# Altium integrated library Linear Technology Power Management Hot Swap Controllers.IntLib: 992 symbols (part 78 of 93)
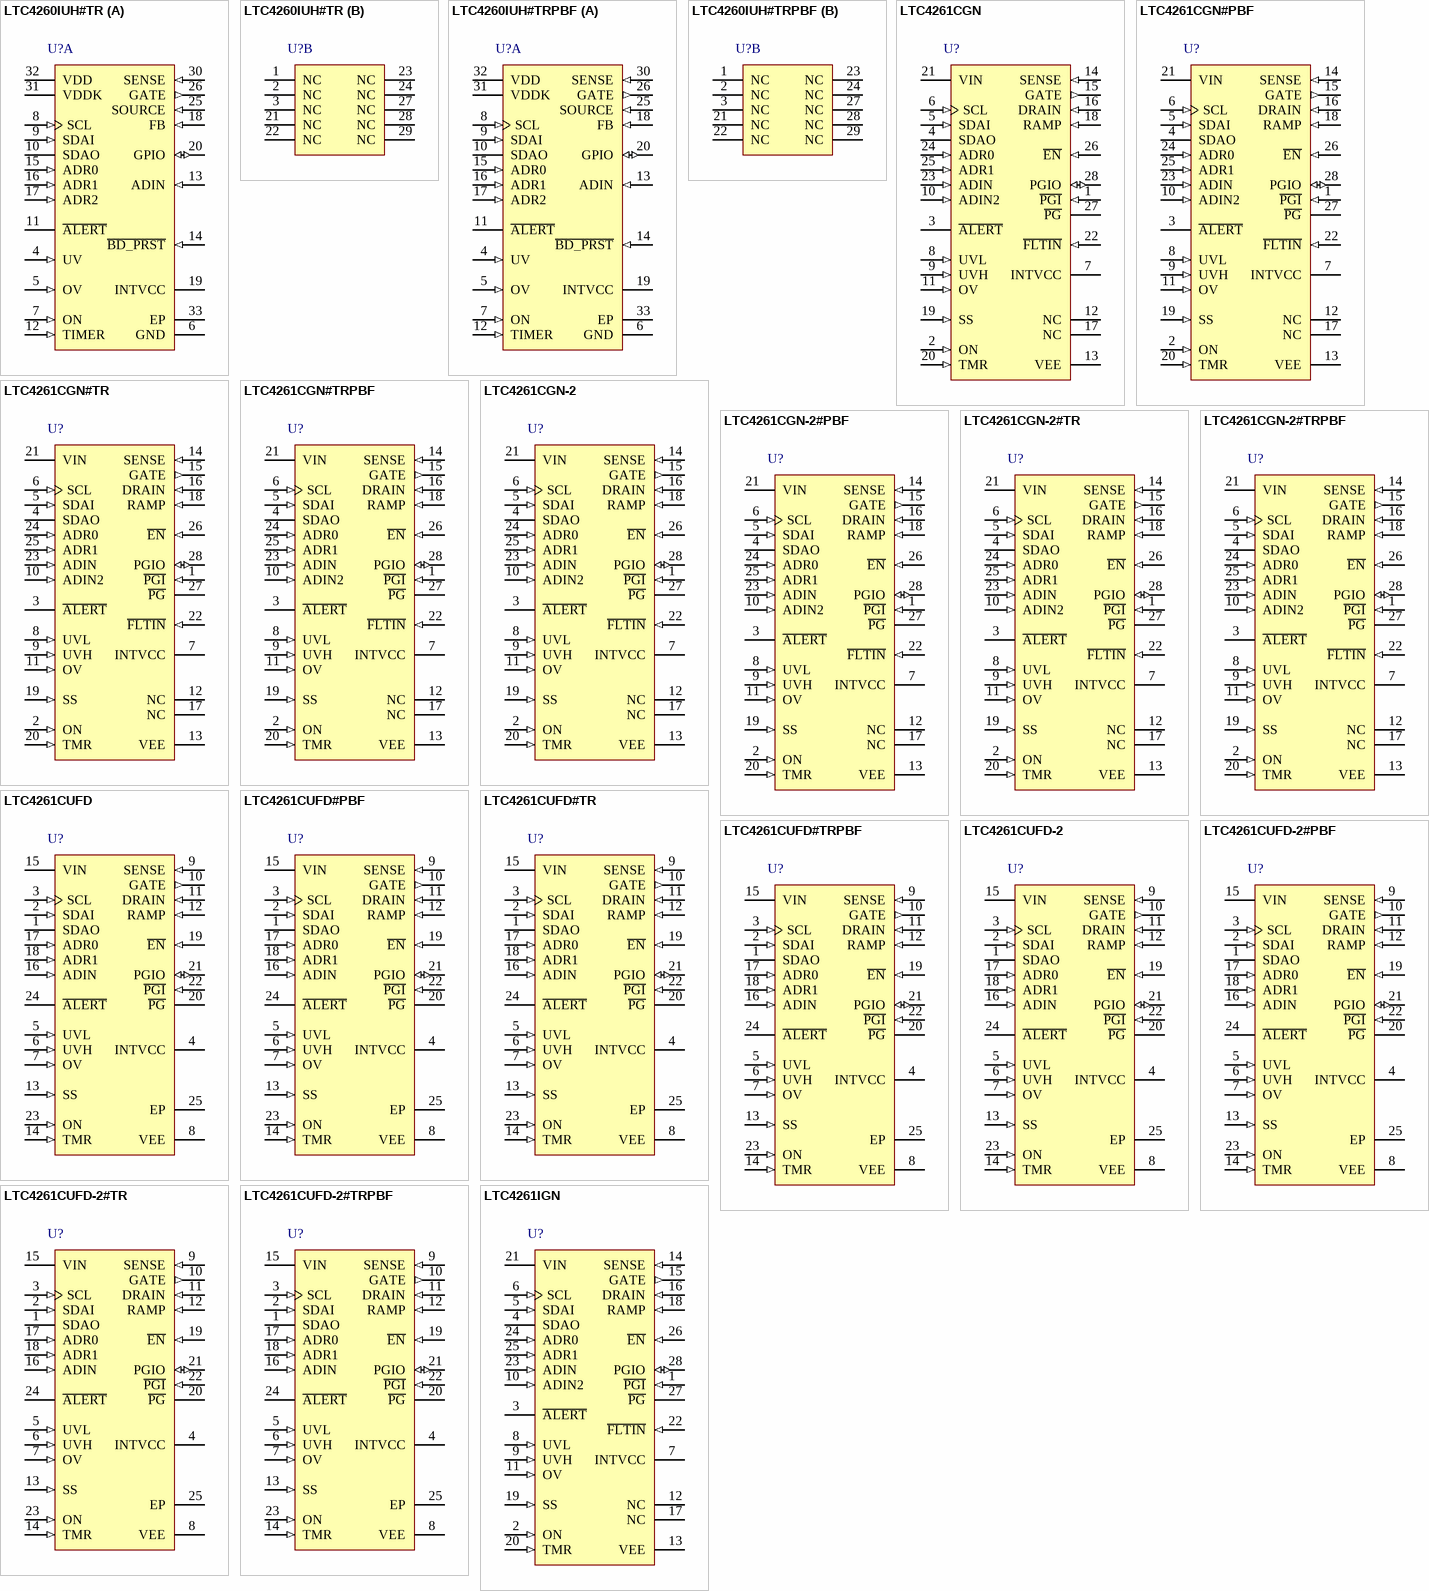
[diagram p114: symbols LTC4260IUH#TR to LTC4261IGN]

## LTC4261CUFD#PBF
designator U?
Negative Voltage Hot Swap Controller with ADC and I2C Monitoring, -12 to -100 V Vin, 24-pin QFN (UFD-24), 0 to 70 degC, Pb-Free; Manufacturer: Linear Technology; PartNumber: LTC4261CUFD#PBF; Active Limiting: yes; ADC: 10-bit; Circuit Breaker Accuracy(%): 10; Circuit Breaker Threshold: 50 mV; Circuit Breakers(#): 1; Extended Temp: C, I; Fast Comparator: no; In-Rush Current: Active/SS; DatasheetVersion: Rev. C; PackageVersion: Rev. A, 06/2010; PackageReference: UFD-24; PackageDescription: 24-Pin Plastic QFN, Body 5 x 4 mm, Pitch 0.5 mm; Supplier 1: Digi-Key; Supplier Part Number 1: LTC4261CUFD#PBF-ND; Fault: yes; Foldback: no; Power Good: yes; Reset: no; RoHS: TRUE; Vin Range: -12 to -100 V; Mounting Technology: Surface Mount; Code_JEDEC: MO-220; ComponentLink1Description: Manufacturer URL; ComponentLink1URL: http://www.linear.com/; ComponentLink2Description: Datasheet; ComponentLink2URL: http://cds.linear.com/docs/en/datasheet/42612fc.pdf; ComponentLink3Description: Package Specification; ComponentLink3URL: http://cds.linear.com/docs/en/packaging/QFN_24_05-08-1696.pdf
footprint LT-UFD-24_N (QFN, 24-Leads, Body 5.1x4.1mm, Pitch 0.5mm, Thermal Pad 3.65x2.65 mm, IPC Medium Density)
footprint LT-UFD-24_L (QFN, 24-Leads, Body 5.1x4.1mm, Pitch 0.5mm, Thermal Pad 3.65x2.65 mm, IPC High Density)
footprint LT-UFD-24_M (QFN, 24-Leads, Body 5.1x4.1mm, Pitch 0.5mm, Thermal Pad 3.65x2.65 mm, IPC Low Density)
pins: 1 SDAO (oc) "Serial Bus Data Output. Open-drain output used for sending data back to the master controller or acknowledging a write operation. An external pull-up resistor or current source is required. Normally connected to the input of (See Datasheet)", 2 SDAI (in) "Serial Bus Data Input. This is a high impedance input pin used for shifting in command bits, data bits and SDAO acknowledge bits. An external pull-up resistor or current source is required. Normally connected to the output (See Datasheet)", 3 SCL (in) "Serial Bus Clock Input. Data at the SDAI pin is shifted in and data at the SDAO pin is shifted out on rising edges of SCL. This is a high impedance pin that is generally connected to the output of the incoming optoisolator (See Datasheet)", 4 INTVCC (power) "Low Voltage (5V) Supply Output. This is the output of the internal linear regulator with an internal UVLO threshold of 4.25V. This voltage powers up the data converter and logic control circuitry. Bypass this pin with a 0.(See Datasheet)", 5 UVL (in) "Undervoltage Low Level Input. Connect this pin to an external resistive divider from VEE. If the voltage at the UVL pin drops below 2.291V, the pass transistor is turned off and the power good outputs go high impedance. (See Datasheet)", 6 UVH (in) "Undervoltage High Level Input. Connect this pin to an external resistive divider from VEE. If the voltage at the UVH pin rises above 2.56V the pass transistor is allowed to turn on. A small capacitor at this pin prevents (See Datasheet)", 7 OV (in) "Overvoltage Detection Input. Connect this pin to an external resistive divider from VEE. If the voltage at the pin rises above 1.77V, the N-channel FET is turned off. The overvoltage condition does not affect the status of (See Datasheet)", 8 VEE (power) "Negative Supply Voltage Input and Device Ground. Connect this pin to the negative side of the power supply.", 9 SENSE (in) "Current Limit Sense Input. Load current through the external sense resistor (RS) is monitored and controlled by an active current limit amplifier to 50mV/RS. Once VSENSE reaches 50mV, a circuit breaker timer starts and turns (See Datasheet)", 10 GATE (out) "N-Channel FET Gate Drive Output. This pin is pulled up by an internal current source IGATE (11.5uA when the SS pin reaches its clamping voltage). GATE stays low until VIN and INTVCC cross the UVLO thresholds, UV and OV (See Datasheet)", 11 DRAIN (in) "Drain Sense Input. Connect an external 1M resistor between this pin and the drain terminal (VOUT) of the N-channel FET. When the DRAIN pin voltage is less than 1.77V and the GATE pin voltage is above VZ - 1.2V the power good (See Datasheet)", 12 RAMP (in) "Inrush Current Ramp Control Pin. The inrush current is set by placing a capacitor (CR) between the RAMP pin and the drain terminal of the FET. At start-up, the GATE pin is pulled up by IGATE(UP) until the pass transistor (See Datasheet)", 13 SS (in) "Soft-Start Input. Connect a capacitor to this pin to control the rate of rise of inrush current (dI/dt) during start-up. An internal 10uA current source charging the external soft start capacitor (CSS) creates a voltage ramp.(See Datasheet)", 14 TMR (in) "Delay Timer Input. Connect a capacitor (CTMR) to this pin to create timing delays at start-up, when power good outputs pull down, during PGI check and when auto-retrying after faults (except overvoltage fault). Internal (See Datasheet)", 15 VIN (power) "Positive Supply Input. Connect this pin to the positive supply through a dropping resistor. An internal shunt regulator clamps VIN at 11.2V. An internal undervoltage lockout (UVLO) circuit holds the GATE low until VIN is (See Datasheet)", 16 ADIN (in) "ADC Input. A voltage between 0V and 2.56V applied to this pin is measured by the on-chip ADC. Tie to VEE if unused.", 17 ADR0 (in) "Serial Bus Address Inputs. Tying these pins to VEE, OPEN or INTVCC configures one of nine possible addresses. See Table 1 in Applications Information.", 18 ADR1 (in) "Serial Bus Address Inputs. Tying these pins to VEE, OPEN or INTVCC configures one of nine possible addresses. See Table 1 in Applications Information.", 19 ~{EN} (in) "Device Enable Input. Pull low to enable the N-channel FET to turn-on after a start-up debounce delay set by the TMR pin. When this pin is pulled high, the FET is off. Transitions on this pin will be recorded in the FAULT (See Datasheet)", 20 ~{PG} (hiz) "Power Good Status Output. This opendrain pin pulls low and stays latched a timer delay after the FET is on (when GATE reaches VZ - 1.2V and DRAIN is within 1.77V of VEE). The power good output is reset in all GATE pull-down (See Datasheet)", 21 PGIO (io) "General Purpose Input/Output. Open-drain logic output and logic input. Defaults to pull low a timer delay after the P\G\ pin goes low to indicate a second power good output. Configure according to Table 6.", 22 ~{PGI} (in) "Power Good Input. This pin along with the P\G\I\ check timer serves as a watchdog to monitor the power-up of the DC/DC converter. The P\G\I\ pin must be low before the P\G\I\ check timer expires, otherwise the GATE pin pulls (See Datasheet)", 23 ON (in) "On Control Input. A rising edge turns on the external N-channel FET while a falling edge turns it off. This pin is also used to configure the state of the FET ON register bit D3 in the CONTROL register (and hence the (See Datasheet)", 24 ~{ALERT} (oc) "Fault Alert Output. Open-drain logic output that pulls to VEE when a fault occurs to alert the host controller. A fault alert is enabled by the A\L\E\R\T\ register. See Applications Information. Connect to VEE if unused.", 25 EP (power) "Exposed Pad may be left open or connected to device ground (VEE)."

## LTC4261CUFD#TR
designator U?
Negative Voltage Hot Swap Controller with ADC and I2C Monitoring, -12 to -100 V Vin, 24-pin QFN (UFD-24), 0 to 70 degC, Tape and Reel; Manufacturer: Linear Technology; PartNumber: LTC4261CUFD#TR; Active Limiting: yes; ADC: 10-bit; Circuit Breaker Accuracy(%): 10; Circuit Breaker Threshold: 50 mV; Circuit Breakers(#): 1; Extended Temp: C, I; Fast Comparator: no; In-Rush Current: Active/SS; DatasheetVersion: Rev. C; PackageVersion: Rev. A, 06/2010; PackageReference: UFD-24; PackageDescription: 24-Pin Plastic QFN, Body 5 x 4 mm, Pitch 0.5 mm; Supplier 1: Digi-Key; Supplier Part Number 1: LTC4261CUFD#TR-ND; Fault: yes; Foldback: no; Packing: Tape and Reel; Power Good: yes; Reset: no; RoHS: FALSE; Vin Range: -12 to -100 V; Mounting Technology: Surface Mount; Code_JEDEC: MO-220; ComponentLink1Description: Manufacturer URL; ComponentLink1URL: http://www.linear.com/; ComponentLink2Description: Datasheet; ComponentLink2URL: http://cds.linear.com/docs/en/datasheet/42612fc.pdf; ComponentLink3Description: Package Specification; ComponentLink3URL: http://cds.linear.com/docs/en/packaging/QFN_24_05-08-1696.pdf
footprint LT-UFD-24_N (QFN, 24-Leads, Body 5.1x4.1mm, Pitch 0.5mm, Thermal Pad 3.65x2.65 mm, IPC Medium Density)
footprint LT-UFD-24_L (QFN, 24-Leads, Body 5.1x4.1mm, Pitch 0.5mm, Thermal Pad 3.65x2.65 mm, IPC High Density)
footprint LT-UFD-24_M (QFN, 24-Leads, Body 5.1x4.1mm, Pitch 0.5mm, Thermal Pad 3.65x2.65 mm, IPC Low Density)
pins: 1 SDAO (oc) "Serial Bus Data Output. Open-drain output used for sending data back to the master controller or acknowledging a write operation. An external pull-up resistor or current source is required. Normally connected to the input of (See Datasheet)", 2 SDAI (in) "Serial Bus Data Input. This is a high impedance input pin used for shifting in command bits, data bits and SDAO acknowledge bits. An external pull-up resistor or current source is required. Normally connected to the output (See Datasheet)", 3 SCL (in) "Serial Bus Clock Input. Data at the SDAI pin is shifted in and data at the SDAO pin is shifted out on rising edges of SCL. This is a high impedance pin that is generally connected to the output of the incoming optoisolator (See Datasheet)", 4 INTVCC (power) "Low Voltage (5V) Supply Output. This is the output of the internal linear regulator with an internal UVLO threshold of 4.25V. This voltage powers up the data converter and logic control circuitry. Bypass this pin with a 0.(See Datasheet)", 5 UVL (in) "Undervoltage Low Level Input. Connect this pin to an external resistive divider from VEE. If the voltage at the UVL pin drops below 2.291V, the pass transistor is turned off and the power good outputs go high impedance. (See Datasheet)", 6 UVH (in) "Undervoltage High Level Input. Connect this pin to an external resistive divider from VEE. If the voltage at the UVH pin rises above 2.56V the pass transistor is allowed to turn on. A small capacitor at this pin prevents (See Datasheet)", 7 OV (in) "Overvoltage Detection Input. Connect this pin to an external resistive divider from VEE. If the voltage at the pin rises above 1.77V, the N-channel FET is turned off. The overvoltage condition does not affect the status of (See Datasheet)", 8 VEE (power) "Negative Supply Voltage Input and Device Ground. Connect this pin to the negative side of the power supply.", 9 SENSE (in) "Current Limit Sense Input. Load current through the external sense resistor (RS) is monitored and controlled by an active current limit amplifier to 50mV/RS. Once VSENSE reaches 50mV, a circuit breaker timer starts and turns (See Datasheet)", 10 GATE (out) "N-Channel FET Gate Drive Output. This pin is pulled up by an internal current source IGATE (11.5uA when the SS pin reaches its clamping voltage). GATE stays low until VIN and INTVCC cross the UVLO thresholds, UV and OV (See Datasheet)", 11 DRAIN (in) "Drain Sense Input. Connect an external 1M resistor between this pin and the drain terminal (VOUT) of the N-channel FET. When the DRAIN pin voltage is less than 1.77V and the GATE pin voltage is above VZ - 1.2V the power good (See Datasheet)", 12 RAMP (in) "Inrush Current Ramp Control Pin. The inrush current is set by placing a capacitor (CR) between the RAMP pin and the drain terminal of the FET. At start-up, the GATE pin is pulled up by IGATE(UP) until the pass transistor (See Datasheet)", 13 SS (in) "Soft-Start Input. Connect a capacitor to this pin to control the rate of rise of inrush current (dI/dt) during start-up. An internal 10uA current source charging the external soft start capacitor (CSS) creates a voltage ramp.(See Datasheet)", 14 TMR (in) "Delay Timer Input. Connect a capacitor (CTMR) to this pin to create timing delays at start-up, when power good outputs pull down, during PGI check and when auto-retrying after faults (except overvoltage fault). Internal (See Datasheet)", 15 VIN (power) "Positive Supply Input. Connect this pin to the positive supply through a dropping resistor. An internal shunt regulator clamps VIN at 11.2V. An internal undervoltage lockout (UVLO) circuit holds the GATE low until VIN is (See Datasheet)", 16 ADIN (in) "ADC Input. A voltage between 0V and 2.56V applied to this pin is measured by the on-chip ADC. Tie to VEE if unused.", 17 ADR0 (in) "Serial Bus Address Inputs. Tying these pins to VEE, OPEN or INTVCC configures one of nine possible addresses. See Table 1 in Applications Information.", 18 ADR1 (in) "Serial Bus Address Inputs. Tying these pins to VEE, OPEN or INTVCC configures one of nine possible addresses. See Table 1 in Applications Information.", 19 ~{EN} (in) "Device Enable Input. Pull low to enable the N-channel FET to turn-on after a start-up debounce delay set by the TMR pin. When this pin is pulled high, the FET is off. Transitions on this pin will be recorded in the FAULT (See Datasheet)", 20 ~{PG} (hiz) "Power Good Status Output. This opendrain pin pulls low and stays latched a timer delay after the FET is on (when GATE reaches VZ - 1.2V and DRAIN is within 1.77V of VEE). The power good output is reset in all GATE pull-down (See Datasheet)", 21 PGIO (io) "General Purpose Input/Output. Open-drain logic output and logic input. Defaults to pull low a timer delay after the P\G\ pin goes low to indicate a second power good output. Configure according to Table 6.", 22 ~{PGI} (in) "Power Good Input. This pin along with the P\G\I\ check timer serves as a watchdog to monitor the power-up of the DC/DC converter. The P\G\I\ pin must be low before the P\G\I\ check timer expires, otherwise the GATE pin pulls (See Datasheet)", 23 ON (in) "On Control Input. A rising edge turns on the external N-channel FET while a falling edge turns it off. This pin is also used to configure the state of the FET ON register bit D3 in the CONTROL register (and hence the (See Datasheet)", 24 ~{ALERT} (oc) "Fault Alert Output. Open-drain logic output that pulls to VEE when a fault occurs to alert the host controller. A fault alert is enabled by the A\L\E\R\T\ register. See Applications Information. Connect to VEE if unused.", 25 EP (power) "Exposed Pad may be left open or connected to device ground (VEE)."

## LTC4261CUFD#TRPBF
designator U?
Negative Voltage Hot Swap Controller with ADC and I2C Monitoring, -12 to -100 V Vin, 24-pin QFN (UFD-24), 0 to 70 degC, Pb-Free, Tape and Reel; Manufacturer: Linear Technology; PartNumber: LTC4261CUFD#TRPBF; Active Limiting: yes; ADC: 10-bit; Circuit Breaker Accuracy(%): 10; Circuit Breaker Threshold: 50 mV; Circuit Breakers(#): 1; Extended Temp: C, I; Fast Comparator: no; In-Rush Current: Active/SS; DatasheetVersion: Rev. C; PackageVersion: Rev. A, 06/2010; PackageReference: UFD-24; PackageDescription: 24-Pin Plastic QFN, Body 5 x 4 mm, Pitch 0.5 mm; Supplier 1: Digi-Key; Supplier Part Number 1: LTC4261CUFD#TRPBF-ND; Fault: yes; Foldback: no; Packing: Tape and Reel; Power Good: yes; Reset: no; RoHS: TRUE; Vin Range: -12 to -100 V; Mounting Technology: Surface Mount; Code_JEDEC: MO-220; ComponentLink1Description: Manufacturer URL; ComponentLink1URL: http://www.linear.com/; ComponentLink2Description: Datasheet; ComponentLink2URL: http://cds.linear.com/docs/en/datasheet/42612fc.pdf; ComponentLink3Description: Package Specification; ComponentLink3URL: http://cds.linear.com/docs/en/packaging/QFN_24_05-08-1696.pdf
footprint LT-UFD-24_N (QFN, 24-Leads, Body 5.1x4.1mm, Pitch 0.5mm, Thermal Pad 3.65x2.65 mm, IPC Medium Density)
footprint LT-UFD-24_L (QFN, 24-Leads, Body 5.1x4.1mm, Pitch 0.5mm, Thermal Pad 3.65x2.65 mm, IPC High Density)
footprint LT-UFD-24_M (QFN, 24-Leads, Body 5.1x4.1mm, Pitch 0.5mm, Thermal Pad 3.65x2.65 mm, IPC Low Density)
pins: 1 SDAO (oc) "Serial Bus Data Output. Open-drain output used for sending data back to the master controller or acknowledging a write operation. An external pull-up resistor or current source is required. Normally connected to the input of (See Datasheet)", 2 SDAI (in) "Serial Bus Data Input. This is a high impedance input pin used for shifting in command bits, data bits and SDAO acknowledge bits. An external pull-up resistor or current source is required. Normally connected to the output (See Datasheet)", 3 SCL (in) "Serial Bus Clock Input. Data at the SDAI pin is shifted in and data at the SDAO pin is shifted out on rising edges of SCL. This is a high impedance pin that is generally connected to the output of the incoming optoisolator (See Datasheet)", 4 INTVCC (power) "Low Voltage (5V) Supply Output. This is the output of the internal linear regulator with an internal UVLO threshold of 4.25V. This voltage powers up the data converter and logic control circuitry. Bypass this pin with a 0.(See Datasheet)", 5 UVL (in) "Undervoltage Low Level Input. Connect this pin to an external resistive divider from VEE. If the voltage at the UVL pin drops below 2.291V, the pass transistor is turned off and the power good outputs go high impedance. (See Datasheet)", 6 UVH (in) "Undervoltage High Level Input. Connect this pin to an external resistive divider from VEE. If the voltage at the UVH pin rises above 2.56V the pass transistor is allowed to turn on. A small capacitor at this pin prevents (See Datasheet)", 7 OV (in) "Overvoltage Detection Input. Connect this pin to an external resistive divider from VEE. If the voltage at the pin rises above 1.77V, the N-channel FET is turned off. The overvoltage condition does not affect the status of (See Datasheet)", 8 VEE (power) "Negative Supply Voltage Input and Device Ground. Connect this pin to the negative side of the power supply.", 9 SENSE (in) "Current Limit Sense Input. Load current through the external sense resistor (RS) is monitored and controlled by an active current limit amplifier to 50mV/RS. Once VSENSE reaches 50mV, a circuit breaker timer starts and turns (See Datasheet)", 10 GATE (out) "N-Channel FET Gate Drive Output. This pin is pulled up by an internal current source IGATE (11.5uA when the SS pin reaches its clamping voltage). GATE stays low until VIN and INTVCC cross the UVLO thresholds, UV and OV (See Datasheet)", 11 DRAIN (in) "Drain Sense Input. Connect an external 1M resistor between this pin and the drain terminal (VOUT) of the N-channel FET. When the DRAIN pin voltage is less than 1.77V and the GATE pin voltage is above VZ - 1.2V the power good (See Datasheet)", 12 RAMP (in) "Inrush Current Ramp Control Pin. The inrush current is set by placing a capacitor (CR) between the RAMP pin and the drain terminal of the FET. At start-up, the GATE pin is pulled up by IGATE(UP) until the pass transistor (See Datasheet)", 13 SS (in) "Soft-Start Input. Connect a capacitor to this pin to control the rate of rise of inrush current (dI/dt) during start-up. An internal 10uA current source charging the external soft start capacitor (CSS) creates a voltage ramp.(See Datasheet)", 14 TMR (in) "Delay Timer Input. Connect a capacitor (CTMR) to this pin to create timing delays at start-up, when power good outputs pull down, during PGI check and when auto-retrying after faults (except overvoltage fault). Internal (See Datasheet)", 15 VIN (power) "Positive Supply Input. Connect this pin to the positive supply through a dropping resistor. An internal shunt regulator clamps VIN at 11.2V. An internal undervoltage lockout (UVLO) circuit holds the GATE low until VIN is (See Datasheet)", 16 ADIN (in) "ADC Input. A voltage between 0V and 2.56V applied to this pin is measured by the on-chip ADC. Tie to VEE if unused.", 17 ADR0 (in) "Serial Bus Address Inputs. Tying these pins to VEE, OPEN or INTVCC configures one of nine possible addresses. See Table 1 in Applications Information.", 18 ADR1 (in) "Serial Bus Address Inputs. Tying these pins to VEE, OPEN or INTVCC configures one of nine possible addresses. See Table 1 in Applications Information.", 19 ~{EN} (in) "Device Enable Input. Pull low to enable the N-channel FET to turn-on after a start-up debounce delay set by the TMR pin. When this pin is pulled high, the FET is off. Transitions on this pin will be recorded in the FAULT (See Datasheet)", 20 ~{PG} (hiz) "Power Good Status Output. This opendrain pin pulls low and stays latched a timer delay after the FET is on (when GATE reaches VZ - 1.2V and DRAIN is within 1.77V of VEE). The power good output is reset in all GATE pull-down (See Datasheet)", 21 PGIO (io) "General Purpose Input/Output. Open-drain logic output and logic input. Defaults to pull low a timer delay after the P\G\ pin goes low to indicate a second power good output. Configure according to Table 6.", 22 ~{PGI} (in) "Power Good Input. This pin along with the P\G\I\ check timer serves as a watchdog to monitor the power-up of the DC/DC converter. The P\G\I\ pin must be low before the P\G\I\ check timer expires, otherwise the GATE pin pulls (See Datasheet)", 23 ON (in) "On Control Input. A rising edge turns on the external N-channel FET while a falling edge turns it off. This pin is also used to configure the state of the FET ON register bit D3 in the CONTROL register (and hence the (See Datasheet)", 24 ~{ALERT} (oc) "Fault Alert Output. Open-drain logic output that pulls to VEE when a fault occurs to alert the host controller. A fault alert is enabled by the A\L\E\R\T\ register. See Applications Information. Connect to VEE if unused.", 25 EP (power) "Exposed Pad may be left open or connected to device ground (VEE)."

## LTC4261CUFD-2
designator U?
Negative Voltage Hot Swap Controller with ADC and I2C Monitoring, -12 to -100 V Vin, 24-pin QFN (UFD-24), 0 to 70 degC; Manufacturer: Linear Technology; PartNumber: LTC4261CUFD-2; Active Limiting: yes; ADC: 10-bit; Circuit Breaker Accuracy(%): 10; Circuit Breaker Threshold: 50 mV; Circuit Breakers(#): 1; Extended Temp: C, I; Fast Comparator: no; In-Rush Current: Active/SS; DatasheetVersion: Rev. C; PackageVersion: Rev. A, 06/2010; PackageReference: UFD-24; PackageDescription: 24-Pin Plastic QFN, Body 5 x 4 mm, Pitch 0.5 mm; Fault: yes; Foldback: no; Power Good: yes; Reset: no; RoHS: FALSE; Vin Range: -12 to -100 V; Mounting Technology: Surface Mount; Code_JEDEC: MO-220; ComponentLink1Description: Manufacturer URL; ComponentLink1URL: http://www.linear.com/; ComponentLink2Description: Datasheet; ComponentLink2URL: http://cds.linear.com/docs/en/datasheet/42612fc.pdf; ComponentLink3Description: Package Specification; ComponentLink3URL: http://cds.linear.com/docs/en/packaging/QFN_24_05-08-1696.pdf
footprint LT-UFD-24_N (QFN, 24-Leads, Body 5.1x4.1mm, Pitch 0.5mm, Thermal Pad 3.65x2.65 mm, IPC Medium Density)
footprint LT-UFD-24_L (QFN, 24-Leads, Body 5.1x4.1mm, Pitch 0.5mm, Thermal Pad 3.65x2.65 mm, IPC High Density)
footprint LT-UFD-24_M (QFN, 24-Leads, Body 5.1x4.1mm, Pitch 0.5mm, Thermal Pad 3.65x2.65 mm, IPC Low Density)
pins: 1 SDAO (oc) "Serial Bus Data Output. Open-drain output used for sending data back to the master controller or acknowledging a write operation. An external pull-up resistor or current source is required. Normally connected to the input of (See Datasheet)", 2 SDAI (in) "Serial Bus Data Input. This is a high impedance input pin used for shifting in command bits, data bits and SDAO acknowledge bits. An external pull-up resistor or current source is required. Normally connected to the output (See Datasheet)", 3 SCL (in) "Serial Bus Clock Input. Data at the SDAI pin is shifted in and data at the SDAO pin is shifted out on rising edges of SCL. This is a high impedance pin that is generally connected to the output of the incoming optoisolator (See Datasheet)", 4 INTVCC (power) "Low Voltage (5V) Supply Output. This is the output of the internal linear regulator with an internal UVLO threshold of 4.25V. This voltage powers up the data converter and logic control circuitry. Bypass this pin with a 0.(See Datasheet)", 5 UVL (in) "Undervoltage Low Level Input. Connect this pin to an external resistive divider from VEE. If the voltage at the UVL pin drops below 2.291V, the pass transistor is turned off and the power good outputs go high impedance. (See Datasheet)", 6 UVH (in) "Undervoltage High Level Input. Connect this pin to an external resistive divider from VEE. If the voltage at the UVH pin rises above 2.56V the pass transistor is allowed to turn on. A small capacitor at this pin prevents (See Datasheet)", 7 OV (in) "Overvoltage Detection Input. Connect this pin to an external resistive divider from VEE. If the voltage at the pin rises above 1.77V, the N-channel FET is turned off. The overvoltage condition does not affect the status of (See Datasheet)", 8 VEE (power) "Negative Supply Voltage Input and Device Ground. Connect this pin to the negative side of the power supply.", 9 SENSE (in) "Current Limit Sense Input. Load current through the external sense resistor (RS) is monitored and controlled by an active current limit amplifier to 50mV/RS. Once VSENSE reaches 50mV, a circuit breaker timer starts and turns (See Datasheet)", 10 GATE (out) "N-Channel FET Gate Drive Output. This pin is pulled up by an internal current source IGATE (11.5uA when the SS pin reaches its clamping voltage). GATE stays low until VIN and INTVCC cross the UVLO thresholds, UV and OV (See Datasheet)", 11 DRAIN (in) "Drain Sense Input. Connect an external 1M resistor between this pin and the drain terminal (VOUT) of the N-channel FET. When the DRAIN pin voltage is less than 1.77V and the GATE pin voltage is above VZ - 1.2V the power good (See Datasheet)", 12 RAMP (in) "Inrush Current Ramp Control Pin. The inrush current is set by placing a capacitor (CR) between the RAMP pin and the drain terminal of the FET. At start-up, the GATE pin is pulled up by IGATE(UP) until the pass transistor (See Datasheet)", 13 SS (in) "Soft-Start Input. Connect a capacitor to this pin to control the rate of rise of inrush current (dI/dt) during start-up. An internal 10uA current source charging the external soft start capacitor (CSS) creates a voltage ramp.(See Datasheet)", 14 TMR (in) "Delay Timer Input. Connect a capacitor (CTMR) to this pin to create timing delays at start-up, when power good outputs pull down, during PGI check and when auto-retrying after faults (except overvoltage fault). Internal (See Datasheet)", 15 VIN (power) "Positive Supply Input. Connect this pin to the positive supply through a dropping resistor. An internal shunt regulator clamps VIN at 11.2V. An internal undervoltage lockout (UVLO) circuit holds the GATE low until VIN is (See Datasheet)", 16 ADIN (in) "ADC Input. A voltage between 0V and 2.56V applied to this pin is measured by the on-chip ADC. Tie to VEE if unused.", 17 ADR0 (in) "Serial Bus Address Inputs. Tying these pins to VEE, OPEN or INTVCC configures one of nine possible addresses. See Table 1 in Applications Information.", 18 ADR1 (in) "Serial Bus Address Inputs. Tying these pins to VEE, OPEN or INTVCC configures one of nine possible addresses. See Table 1 in Applications Information.", 19 ~{EN} (in) "Device Enable Input. Pull low to enable the N-channel FET to turn-on after a start-up debounce delay set by the TMR pin. When this pin is pulled high, the FET is off. Transitions on this pin will be recorded in the FAULT (See Datasheet)", 20 ~{PG} (hiz) "Power Good Status Output. This opendrain pin pulls low and stays latched a timer delay after the FET is on (when GATE reaches VZ - 1.2V and DRAIN is within 1.77V of VEE). The power good output is reset in all GATE pull-down (See Datasheet)", 21 PGIO (io) "General Purpose Input/Output. Open-drain logic output and logic input. Defaults to pull low a timer delay after the P\G\ pin goes low to indicate a second power good output. Configure according to Table 6.", 22 ~{PGI} (in) "Power Good Input. This pin along with the P\G\I\ check timer serves as a watchdog to monitor the power-up of the DC/DC converter. The P\G\I\ pin must be low before the P\G\I\ check timer expires, otherwise the GATE pin pulls (See Datasheet)", 23 ON (in) "On Control Input. A rising edge turns on the external N-channel FET while a falling edge turns it off. This pin is also used to configure the state of the FET ON register bit D3 in the CONTROL register (and hence the (See Datasheet)", 24 ~{ALERT} (oc) "Fault Alert Output. Open-drain logic output that pulls to VEE when a fault occurs to alert the host controller. A fault alert is enabled by the A\L\E\R\T\ register. See Applications Information. Connect to VEE if unused.", 25 EP (power) "Exposed Pad may be left open or connected to device ground (VEE)."

## LTC4261CUFD-2#PBF
designator U?
Negative Voltage Hot Swap Controller with ADC and I2C Monitoring, -12 to -100 V Vin, 24-pin QFN (UFD-24), 0 to 70 degC, Pb-Free; Manufacturer: Linear Technology; PartNumber: LTC4261CUFD-2#PBF; Active Limiting: yes; ADC: 10-bit; Circuit Breaker Accuracy(%): 10; Circuit Breaker Threshold: 50 mV; Circuit Breakers(#): 1; Extended Temp: C, I; Fast Comparator: no; In-Rush Current: Active/SS; DatasheetVersion: Rev. C; PackageVersion: Rev. A, 06/2010; PackageReference: UFD-24; PackageDescription: 24-Pin Plastic QFN, Body 5 x 4 mm, Pitch 0.5 mm; Supplier 1: Digi-Key; Supplier Part Number 1: LTC4261CUFD-2#PBF-ND; Fault: yes; Foldback: no; Power Good: yes; Reset: no; RoHS: TRUE; Vin Range: -12 to -100 V; Mounting Technology: Surface Mount; Code_JEDEC: MO-220; ComponentLink1Description: Manufacturer URL; ComponentLink1URL: http://www.linear.com/; ComponentLink2Description: Datasheet; ComponentLink2URL: http://cds.linear.com/docs/en/datasheet/42612fc.pdf; ComponentLink3Description: Package Specification; ComponentLink3URL: http://cds.linear.com/docs/en/packaging/QFN_24_05-08-1696.pdf
footprint LT-UFD-24_N (QFN, 24-Leads, Body 5.1x4.1mm, Pitch 0.5mm, Thermal Pad 3.65x2.65 mm, IPC Medium Density)
footprint LT-UFD-24_L (QFN, 24-Leads, Body 5.1x4.1mm, Pitch 0.5mm, Thermal Pad 3.65x2.65 mm, IPC High Density)
footprint LT-UFD-24_M (QFN, 24-Leads, Body 5.1x4.1mm, Pitch 0.5mm, Thermal Pad 3.65x2.65 mm, IPC Low Density)
pins: 1 SDAO (oc) "Serial Bus Data Output. Open-drain output used for sending data back to the master controller or acknowledging a write operation. An external pull-up resistor or current source is required. Normally connected to the input of (See Datasheet)", 2 SDAI (in) "Serial Bus Data Input. This is a high impedance input pin used for shifting in command bits, data bits and SDAO acknowledge bits. An external pull-up resistor or current source is required. Normally connected to the output (See Datasheet)", 3 SCL (in) "Serial Bus Clock Input. Data at the SDAI pin is shifted in and data at the SDAO pin is shifted out on rising edges of SCL. This is a high impedance pin that is generally connected to the output of the incoming optoisolator (See Datasheet)", 4 INTVCC (power) "Low Voltage (5V) Supply Output. This is the output of the internal linear regulator with an internal UVLO threshold of 4.25V. This voltage powers up the data converter and logic control circuitry. Bypass this pin with a 0.(See Datasheet)", 5 UVL (in) "Undervoltage Low Level Input. Connect this pin to an external resistive divider from VEE. If the voltage at the UVL pin drops below 2.291V, the pass transistor is turned off and the power good outputs go high impedance. (See Datasheet)", 6 UVH (in) "Undervoltage High Level Input. Connect this pin to an external resistive divider from VEE. If the voltage at the UVH pin rises above 2.56V the pass transistor is allowed to turn on. A small capacitor at this pin prevents (See Datasheet)", 7 OV (in) "Overvoltage Detection Input. Connect this pin to an external resistive divider from VEE. If the voltage at the pin rises above 1.77V, the N-channel FET is turned off. The overvoltage condition does not affect the status of (See Datasheet)", 8 VEE (power) "Negative Supply Voltage Input and Device Ground. Connect this pin to the negative side of the power supply.", 9 SENSE (in) "Current Limit Sense Input. Load current through the external sense resistor (RS) is monitored and controlled by an active current limit amplifier to 50mV/RS. Once VSENSE reaches 50mV, a circuit breaker timer starts and turns (See Datasheet)", 10 GATE (out) "N-Channel FET Gate Drive Output. This pin is pulled up by an internal current source IGATE (11.5uA when the SS pin reaches its clamping voltage). GATE stays low until VIN and INTVCC cross the UVLO thresholds, UV and OV (See Datasheet)", 11 DRAIN (in) "Drain Sense Input. Connect an external 1M resistor between this pin and the drain terminal (VOUT) of the N-channel FET. When the DRAIN pin voltage is less than 1.77V and the GATE pin voltage is above VZ - 1.2V the power good (See Datasheet)", 12 RAMP (in) "Inrush Current Ramp Control Pin. The inrush current is set by placing a capacitor (CR) between the RAMP pin and the drain terminal of the FET. At start-up, the GATE pin is pulled up by IGATE(UP) until the pass transistor (See Datasheet)", 13 SS (in) "Soft-Start Input. Connect a capacitor to this pin to control the rate of rise of inrush current (dI/dt) during start-up. An internal 10uA current source charging the external soft start capacitor (CSS) creates a voltage ramp.(See Datasheet)", 14 TMR (in) "Delay Timer Input. Connect a capacitor (CTMR) to this pin to create timing delays at start-up, when power good outputs pull down, during PGI check and when auto-retrying after faults (except overvoltage fault). Internal (See Datasheet)", 15 VIN (power) "Positive Supply Input. Connect this pin to the positive supply through a dropping resistor. An internal shunt regulator clamps VIN at 11.2V. An internal undervoltage lockout (UVLO) circuit holds the GATE low until VIN is (See Datasheet)", 16 ADIN (in) "ADC Input. A voltage between 0V and 2.56V applied to this pin is measured by the on-chip ADC. Tie to VEE if unused.", 17 ADR0 (in) "Serial Bus Address Inputs. Tying these pins to VEE, OPEN or INTVCC configures one of nine possible addresses. See Table 1 in Applications Information.", 18 ADR1 (in) "Serial Bus Address Inputs. Tying these pins to VEE, OPEN or INTVCC configures one of nine possible addresses. See Table 1 in Applications Information.", 19 ~{EN} (in) "Device Enable Input. Pull low to enable the N-channel FET to turn-on after a start-up debounce delay set by the TMR pin. When this pin is pulled high, the FET is off. Transitions on this pin will be recorded in the FAULT (See Datasheet)", 20 ~{PG} (hiz) "Power Good Status Output. This opendrain pin pulls low and stays latched a timer delay after the FET is on (when GATE reaches VZ - 1.2V and DRAIN is within 1.77V of VEE). The power good output is reset in all GATE pull-down (See Datasheet)", 21 PGIO (io) "General Purpose Input/Output. Open-drain logic output and logic input. Defaults to pull low a timer delay after the P\G\ pin goes low to indicate a second power good output. Configure according to Table 6.", 22 ~{PGI} (in) "Power Good Input. This pin along with the P\G\I\ check timer serves as a watchdog to monitor the power-up of the DC/DC converter. The P\G\I\ pin must be low before the P\G\I\ check timer expires, otherwise the GATE pin pulls (See Datasheet)", 23 ON (in) "On Control Input. A rising edge turns on the external N-channel FET while a falling edge turns it off. This pin is also used to configure the state of the FET ON register bit D3 in the CONTROL register (and hence the (See Datasheet)", 24 ~{ALERT} (oc) "Fault Alert Output. Open-drain logic output that pulls to VEE when a fault occurs to alert the host controller. A fault alert is enabled by the A\L\E\R\T\ register. See Applications Information. Connect to VEE if unused.", 25 EP (power) "Exposed Pad may be left open or connected to device ground (VEE)."

## LTC4261CUFD-2#TR
designator U?
Negative Voltage Hot Swap Controller with ADC and I2C Monitoring, -12 to -100 V Vin, 24-pin QFN (UFD-24), 0 to 70 degC, Tape and Reel; Manufacturer: Linear Technology; PartNumber: LTC4261CUFD-2#TR; Active Limiting: yes; ADC: 10-bit; Circuit Breaker Accuracy(%): 10; Circuit Breaker Threshold: 50 mV; Circuit Breakers(#): 1; Extended Temp: C, I; Fast Comparator: no; In-Rush Current: Active/SS; DatasheetVersion: Rev. C; PackageVersion: Rev. A, 06/2010; PackageReference: UFD-24; PackageDescription: 24-Pin Plastic QFN, Body 5 x 4 mm, Pitch 0.5 mm; Fault: yes; Foldback: no; Packing: Tape and Reel; Power Good: yes; Reset: no; RoHS: FALSE; Vin Range: -12 to -100 V; Mounting Technology: Surface Mount; Code_JEDEC: MO-220; ComponentLink1Description: Manufacturer URL; ComponentLink1URL: http://www.linear.com/; ComponentLink2Description: Datasheet; ComponentLink2URL: http://cds.linear.com/docs/en/datasheet/42612fc.pdf; ComponentLink3Description: Package Specification; ComponentLink3URL: http://cds.linear.com/docs/en/packaging/QFN_24_05-08-1696.pdf
footprint LT-UFD-24_N (QFN, 24-Leads, Body 5.1x4.1mm, Pitch 0.5mm, Thermal Pad 3.65x2.65 mm, IPC Medium Density)
footprint LT-UFD-24_L (QFN, 24-Leads, Body 5.1x4.1mm, Pitch 0.5mm, Thermal Pad 3.65x2.65 mm, IPC High Density)
footprint LT-UFD-24_M (QFN, 24-Leads, Body 5.1x4.1mm, Pitch 0.5mm, Thermal Pad 3.65x2.65 mm, IPC Low Density)
pins: 1 SDAO (oc) "Serial Bus Data Output. Open-drain output used for sending data back to the master controller or acknowledging a write operation. An external pull-up resistor or current source is required. Normally connected to the input of (See Datasheet)", 2 SDAI (in) "Serial Bus Data Input. This is a high impedance input pin used for shifting in command bits, data bits and SDAO acknowledge bits. An external pull-up resistor or current source is required. Normally connected to the output (See Datasheet)", 3 SCL (in) "Serial Bus Clock Input. Data at the SDAI pin is shifted in and data at the SDAO pin is shifted out on rising edges of SCL. This is a high impedance pin that is generally connected to the output of the incoming optoisolator (See Datasheet)", 4 INTVCC (power) "Low Voltage (5V) Supply Output. This is the output of the internal linear regulator with an internal UVLO threshold of 4.25V. This voltage powers up the data converter and logic control circuitry. Bypass this pin with a 0.(See Datasheet)", 5 UVL (in) "Undervoltage Low Level Input. Connect this pin to an external resistive divider from VEE. If the voltage at the UVL pin drops below 2.291V, the pass transistor is turned off and the power good outputs go high impedance. (See Datasheet)", 6 UVH (in) "Undervoltage High Level Input. Connect this pin to an external resistive divider from VEE. If the voltage at the UVH pin rises above 2.56V the pass transistor is allowed to turn on. A small capacitor at this pin prevents (See Datasheet)", 7 OV (in) "Overvoltage Detection Input. Connect this pin to an external resistive divider from VEE. If the voltage at the pin rises above 1.77V, the N-channel FET is turned off. The overvoltage condition does not affect the status of (See Datasheet)", 8 VEE (power) "Negative Supply Voltage Input and Device Ground. Connect this pin to the negative side of the power supply.", 9 SENSE (in) "Current Limit Sense Input. Load current through the external sense resistor (RS) is monitored and controlled by an active current limit amplifier to 50mV/RS. Once VSENSE reaches 50mV, a circuit breaker timer starts and turns (See Datasheet)", 10 GATE (out) "N-Channel FET Gate Drive Output. This pin is pulled up by an internal current source IGATE (11.5uA when the SS pin reaches its clamping voltage). GATE stays low until VIN and INTVCC cross the UVLO thresholds, UV and OV (See Datasheet)", 11 DRAIN (in) "Drain Sense Input. Connect an external 1M resistor between this pin and the drain terminal (VOUT) of the N-channel FET. When the DRAIN pin voltage is less than 1.77V and the GATE pin voltage is above VZ - 1.2V the power good (See Datasheet)", 12 RAMP (in) "Inrush Current Ramp Control Pin. The inrush current is set by placing a capacitor (CR) between the RAMP pin and the drain terminal of the FET. At start-up, the GATE pin is pulled up by IGATE(UP) until the pass transistor (See Datasheet)", 13 SS (in) "Soft-Start Input. Connect a capacitor to this pin to control the rate of rise of inrush current (dI/dt) during start-up. An internal 10uA current source charging the external soft start capacitor (CSS) creates a voltage ramp.(See Datasheet)", 14 TMR (in) "Delay Timer Input. Connect a capacitor (CTMR) to this pin to create timing delays at start-up, when power good outputs pull down, during PGI check and when auto-retrying after faults (except overvoltage fault). Internal (See Datasheet)", 15 VIN (power) "Positive Supply Input. Connect this pin to the positive supply through a dropping resistor. An internal shunt regulator clamps VIN at 11.2V. An internal undervoltage lockout (UVLO) circuit holds the GATE low until VIN is (See Datasheet)", 16 ADIN (in) "ADC Input. A voltage between 0V and 2.56V applied to this pin is measured by the on-chip ADC. Tie to VEE if unused.", 17 ADR0 (in) "Serial Bus Address Inputs. Tying these pins to VEE, OPEN or INTVCC configures one of nine possible addresses. See Table 1 in Applications Information.", 18 ADR1 (in) "Serial Bus Address Inputs. Tying these pins to VEE, OPEN or INTVCC configures one of nine possible addresses. See Table 1 in Applications Information.", 19 ~{EN} (in) "Device Enable Input. Pull low to enable the N-channel FET to turn-on after a start-up debounce delay set by the TMR pin. When this pin is pulled high, the FET is off. Transitions on this pin will be recorded in the FAULT (See Datasheet)", 20 ~{PG} (hiz) "Power Good Status Output. This opendrain pin pulls low and stays latched a timer delay after the FET is on (when GATE reaches VZ - 1.2V and DRAIN is within 1.77V of VEE). The power good output is reset in all GATE pull-down (See Datasheet)", 21 PGIO (io) "General Purpose Input/Output. Open-drain logic output and logic input. Defaults to pull low a timer delay after the P\G\ pin goes low to indicate a second power good output. Configure according to Table 6.", 22 ~{PGI} (in) "Power Good Input. This pin along with the P\G\I\ check timer serves as a watchdog to monitor the power-up of the DC/DC converter. The P\G\I\ pin must be low before the P\G\I\ check timer expires, otherwise the GATE pin pulls (See Datasheet)", 23 ON (in) "On Control Input. A rising edge turns on the external N-channel FET while a falling edge turns it off. This pin is also used to configure the state of the FET ON register bit D3 in the CONTROL register (and hence the (See Datasheet)", 24 ~{ALERT} (oc) "Fault Alert Output. Open-drain logic output that pulls to VEE when a fault occurs to alert the host controller. A fault alert is enabled by the A\L\E\R\T\ register. See Applications Information. Connect to VEE if unused.", 25 EP (power) "Exposed Pad may be left open or connected to device ground (VEE)."